# EAGLE library part CLKBRD-V2 (library cdp)
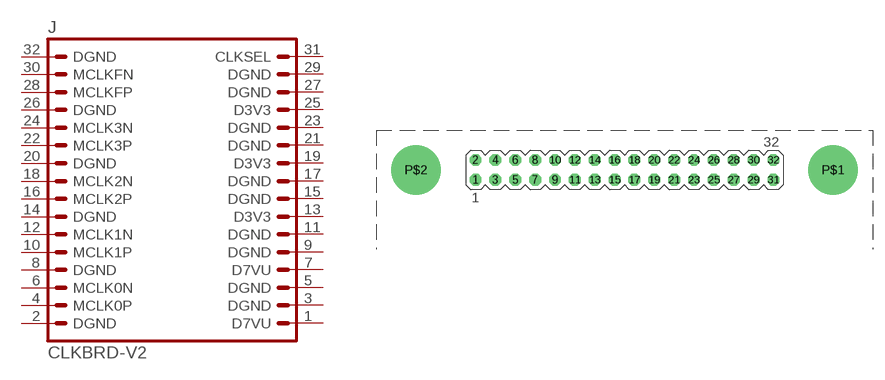
[diagram p26: symbol with the pads of MA16-2; footprint MA16-2]

Designator prefix J

## CLKBRD-V2  [MA16-2]
1  D7VU  pas
2  DGND  pas
3  DGND  pas
4  MCLK0P  pas
5  DGND  pas
6  MCLK0N  pas
7  D7VU  pas
8  DGND  pas
9  DGND  pas
10  MCLK1P  pas
11  DGND  pas
12  MCLK1N  pas
13  D3V3  pas
14  DGND  pas
15  DGND  pas
16  MCLK2P  pas
17  DGND  pas
18  MCLK2N  pas
19  D3V3  pas
20  DGND  pas
21  DGND  pas
22  MCLK3P  pas
23  DGND  pas
24  MCLK3N  pas
25  D3V3  pas
26  DGND  pas
27  DGND  pas
28  MCLKFP  pas
29  DGND  pas
30  MCLKFN  pas
31  CLKSEL  pas
32  DGND  pas

## Footprint MA16-2 (pad centres in mm)
drill 1.016 octagon: 1 -20.32,-1.27; 2 -20.32,1.27; 3 -17.78,-1.27; 4 -17.78,1.27; 5 -15.24,-1.27; 6 -15.24,1.27; 7 -12.7,-1.27; 8 -12.7,1.27; 9 -10.16,-1.27; 10 -10.16,1.27; 11 -7.62,-1.27; 12 -7.62,1.27; 13 -5.08,-1.27; 14 -5.08,1.27; 15 -2.54,-1.27; 16 -2.54,1.27; 17 0,-1.27; 18 0,1.27; 19 2.54,-1.27; 20 2.54,1.27; 21 5.08,-1.27; 22 5.08,1.27; 23 7.62,-1.27; 24 7.62,1.27; 25 10.16,-1.27; 26 10.16,1.27; 27 12.7,-1.27; 28 12.7,1.27; 29 15.24,-1.27; 30 15.24,1.27; 31 17.78,-1.27; 32 17.78,1.27
drill 3.175 pad 6.35 round: P$1 25.4,0; P$2 -27.94,0